# EAGLE library part 66200621022 (library Wurth_Elektronik_Electromechanic_Wire_to_Board_Connectors_rev15c)
WR-MPC3 3.00mm Male Dual Row Angled Header with Plastic Pegs, 6 Pins=>Code : Con_WTB-MPC3_2_PCB_THT66200621022 <http://katalog.we-online.de/media/thumbs2/eican/thb_Con_WTB-MPC3_2_PCB_THT86220xx21022_pf2.jpg> Details see: http://katalog.we-online.de/en/em/662_0xx_210_22 Created 2014-06-06, Karrer Zheng 2014 (C) Würth Elektronik
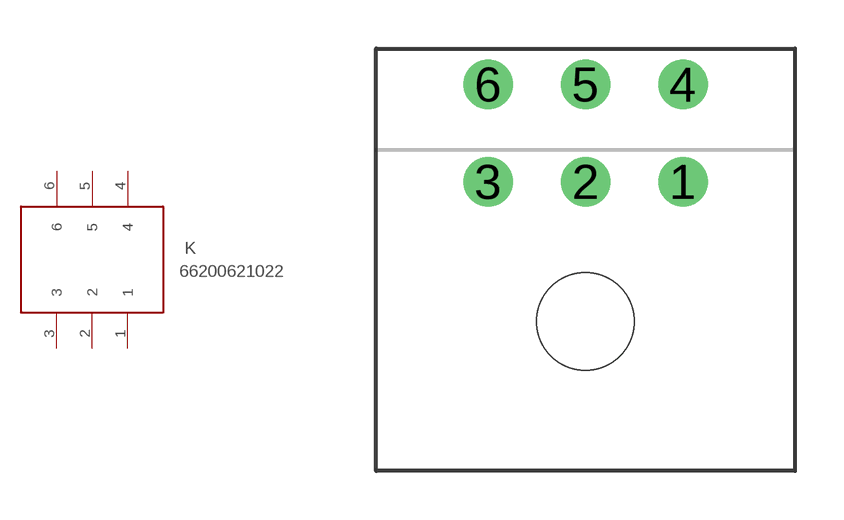
[diagram p327: symbol with the pads of 66200621022; footprint 66200621022]

Designator prefix K

## 66200621022  [66200621022]
1  1
2  2
3  3
4  4
5  5
6  6

## Footprint 66200621022 (pad centres in mm)
WR-MPC3 3.00mm Male Dual Row Angled Header with Plastic Pegs, 6 Pins
drill 1.02: 1 0,-1.5; 2 -3,-1.5; 3 -6,-1.5; 4 0,1.5; 5 -3,1.5; 6 -6,1.5
hole 3 at -3,-5.8